# Altium footprint library CH32X035F7.PcbLib: 15 footprints
Each footprint in its own frame and in the unit in brackets; x right, y up, seen from the top. Pads: shape width x height; smd on the part's side, far side on the other; paste and mask are expansions set on the pad; w line width, h text height; cw(c..) or ccw(c..) is an arc to the next point about the centre after c.
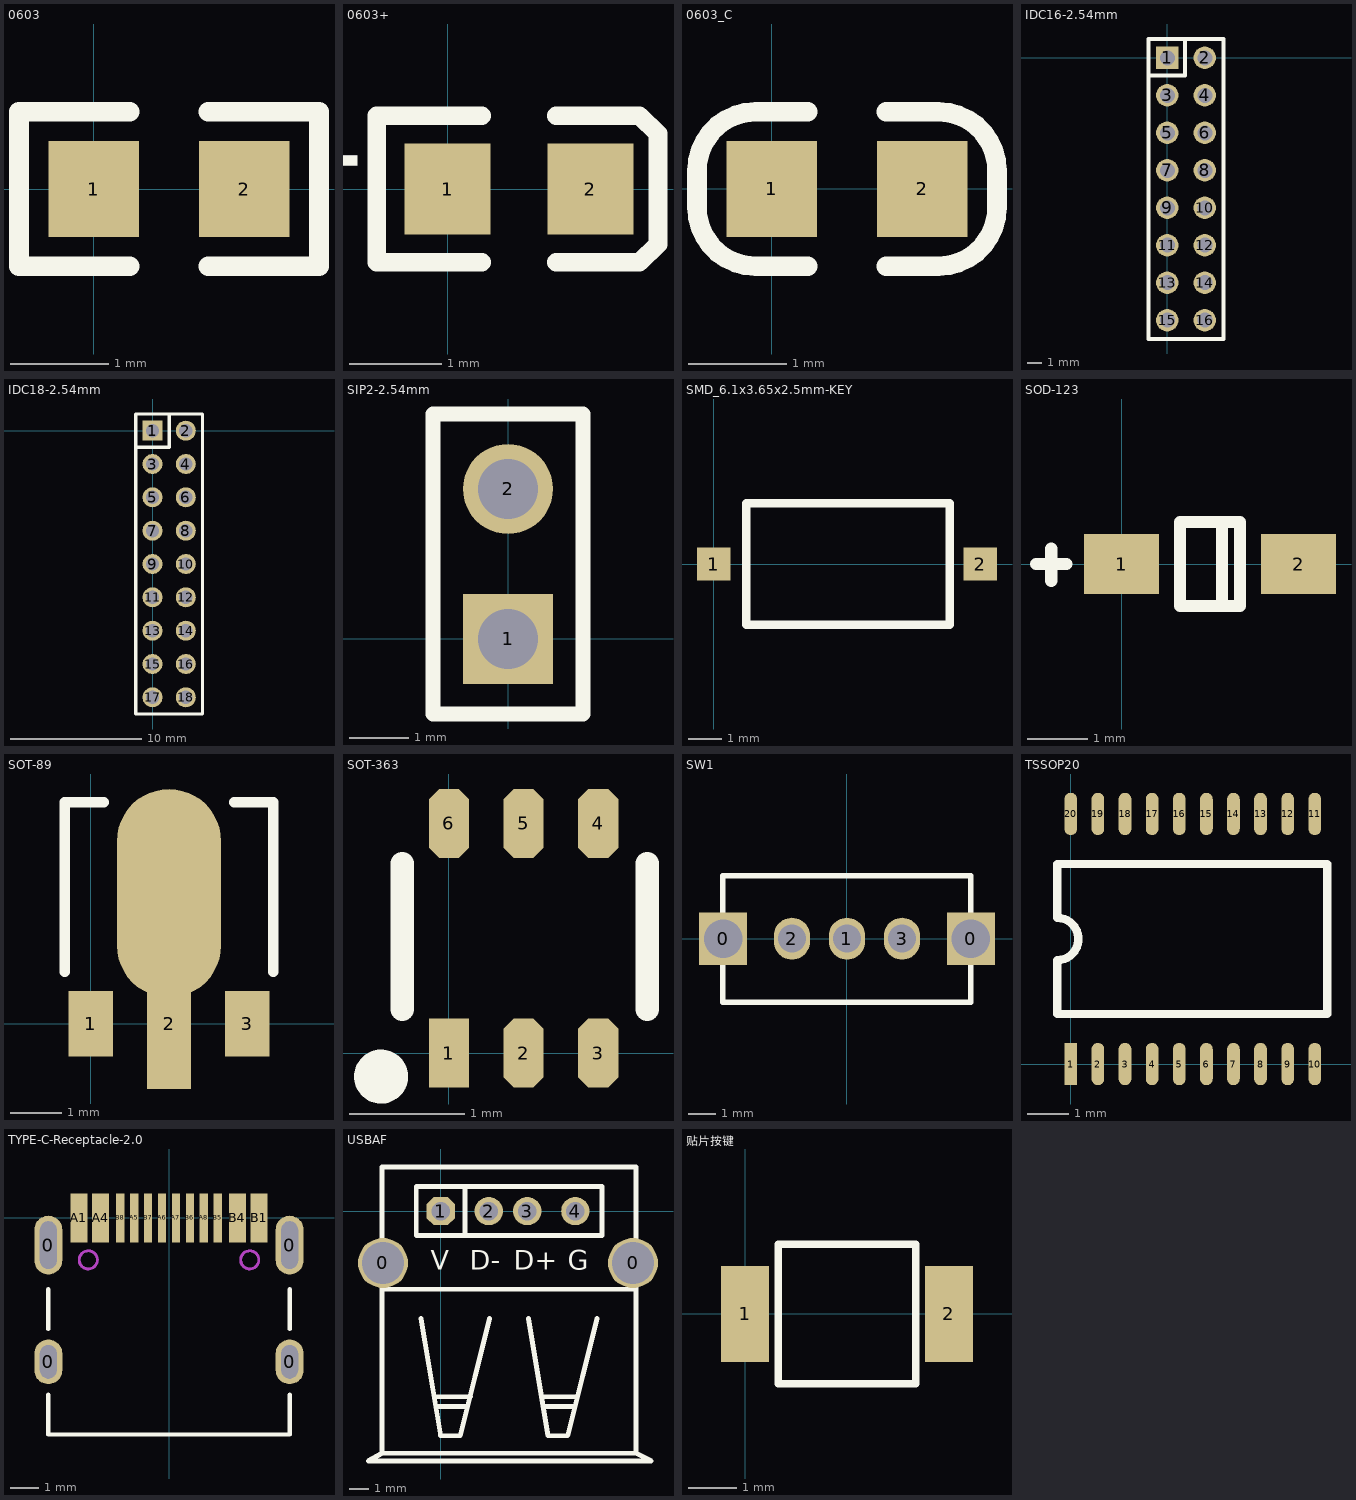
[diagram p0: the footprints below, top view; thin cyan lines are the x and y axes]

## 0603 [mm]
height 1.3
pads (2):
  rect 0.93x0.98 smd: 1(0,0) 2(1.54,0)
Top Overlay:
  lines w0.2: 0.37,-0.79 -0.765,-0.79 -0.765,0.79 0.37,0.79 ; 1.17,-0.79 2.305,-0.79 2.305,0.79 1.17,0.79

## 0603+ [mm]
height 1.3
pads (2):
  rect 0.93x0.98 smd: 1(0,0) 2(1.54,0)
Top Overlay:
  lines w0.2: 0.37,-0.79 -0.765,-0.79 -0.765,0.79 0.37,0.79 ; 1.17,-0.79 2.07,-0.79 2.27,-0.597 2.27,0.597 2.07,0.79 1.17,0.79
  text "+" at -0.967,-0.279 h1.02

## 0603_C [mm]
height 1.3
pads (2):
  rect 0.93x0.98 smd mask+0.051: 1(0,0) 2(1.54,0)
Top Overlay:
  lines w0.2: 0.37,-0.79 -0.165,-0.79 cw(c-0.165,-0.19) -0.765,-0.19 -0.765,0.19 cw(c-0.165,0.19) -0.165,0.79 0.37,0.79 ; 1.17,-0.79 1.705,-0.79 ccw(c1.705,-0.19) 2.305,-0.19 2.305,0.19 ccw(c1.705,0.19) 1.705,0.79 1.17,0.79

## IDC16-2.54mm [mil]
height 51.18
pads (16):
  rect 60x60 hole 40: 1(0,0)
  round 60 hole 40: 2(100,0) 3(0,-100) 4(100,-100) 5(0,-200) 6(100,-200) 7(0,-300) 8(100,-300) 9(0,-400) 10(100,-400) 11(0,-500) 12(100,-500) 13(0,-600) 14(100,-600) 15(0,-700) 16(100,-700)
Top Overlay:
  lines w10: -50,-47 47,-47 47,49 ; -50,49 -50,-750 150,-750 150,49 ; -50,50 150,50

## IDC18-2.54mm [mil]
height 51.18
pads (18):
  rect 60x60 hole 40: 1(0,0)
  round 60 hole 40: 2(100,0) 3(0,-100) 4(100,-100) 5(0,-200) 6(100,-200) 7(0,-300) 8(100,-300) 9(0,-400) 10(100,-400) 11(0,-500) 12(100,-500) 13(0,-600) 14(100,-600) 15(0,-700) 16(100,-700) 17(0,-800) 18(100,-800)
Top Overlay:
  lines w10: -51,-850 149,-850 ; -50,-850 -50,50 150,50 150,-850 ; -50,-50 50,-50 50,50

## SIP2-2.54mm [mil]
height 51.18
pads (2):
  rect 60x60 hole 40: 1(0,0)
  round 60 hole 40: 2(0,100)
Top Overlay:
  lines w10: -50,-50 50,-50 50,150 -50,150 -50,-50

## SMD_6.1x3.65x2.5mm-KEY [mm]
height 1.3
pads (2):
  rect 1x1 smd: 1(0,0) 2(8,0)
Top Overlay:
  lines w0.254: 0.976,-1.825 0.976,1.825 7.076,1.825 7.076,-1.825 0.976,-1.825

## SOD-123 [mm]
height 1.3
pads (2):
  rect 1.25x1 smd: 1(0,0) 2(2.95,0)
Top Overlay:
  lines w0.2: 1.675,-0.7 1.675,0.7 ; 0.975,-0.7 0.975,0.7 1.975,0.7 1.975,-0.7 0.975,-0.7
  lines w0.203: -1.43,0 -0.922,0 ; -1.176,-0.279 -1.176,0.254

## SOT-89 [mil]
height 51.18
pads (4):
  rect 34x50 smd: 1(0,0) 3(120,0)
  rect 34x100 smd: 2(60,0)
  oval 80x160 smd: ""(60,100)
Top Overlay:
  lines w8: -20,40 -20,170 10,170 ; 110,170 140,170 140,40

## SOT-363 [mm]
height 1.3
pads (6):
  rect 0.35x0.6 smd mask+0.051: 1(0,0)
  oct 0.35x0.6 smd mask+0.051: 2(0.65,0) 3(1.3,0) 4(1.3,2) 5(0.65,2) 6(0,2)
Top Overlay:
  circle w0.254: c-0.59,-0.205 r0.108
  lines w0.203: -0.406,0.381 -0.406,1.651 ; 1.727,0.381 1.727,1.651

## SW1 [mm]
height 1.3
pads (5):
  rect 1.75x1.9 hole 1.4: 0(-4.5,0) 0(4.5,0)
  oval 1.321x1.524 hole 1.016: 1(0,0) 2(-2,0) 3(2,0)
Top Overlay:
  lines w0.203: -4.508,-2.311 -4.508,2.289 ; -4.5,-2.311 4.5,-2.311 4.5,2.289 -4.5,2.289

## TSSOP20 [mil]
height 51.18
pads (20):
  rect 12x40 smd: 1(0,0)
  oval 12x40 smd: 2(25.6,0) 3(51.2,0) 4(76.8,0) 5(102.4,0) 6(128,0) 7(153.5,0) 8(179.1,0) 9(204.7,0) 10(230.3,0) 11(230.3,236) 12(204.7,236) 13(179.1,236) 14(153.5,236) 15(128,236) 16(102.4,236) 17(76.8,236) 18(51.2,236) 19(25.6,236) 20(0,236)
Top Overlay:
  lines w7.87: -12.79,47.24 -12.79,98 ccw(c-12.79,118) -12.79,138 -12.79,188.76 241.91,188.76 241.91,47.24 -12.79,47.24

## TYPE-C-Receptacle-2.0 [mm]
height 1.3
pads (16):
  oval 1x1.6 hole 0.6 slot 1.2 at 90 deg: 0(-4.32,-5.15) 0(4.32,-5.15)
  oval 1x2.1 hole 0.6 slot 1.7 at 90 deg: 0(-4.32,-0.97) 0(4.32,-0.97)
  rect 0.6x1.75 smd mask+0.051: A1(-3.225,0) A4(-2.45,0) B1(3.225,0) B4(2.45,0)
  rect 0.3x1.75 smd mask+0.051: A5(-1.25,0) A6(-0.25,0) A7(0.25,0) A8(1.25,0) B5(1.75,0) B6(0.75,0) B7(-0.75,0) B8(-1.75,0)
Top Overlay:
  lines w0.152: -4.32,-6.325 -4.32,-7.75 4.32,-7.75 4.32,-6.325 ; -4.32,-3.975 -4.32,-2.55 ; 4.32,-3.975 4.32,-2.55
Keep-Out Layer:
  circle w0.1: c2.89,-1.5 r0.325
  circle w0.1: c-2.89,-1.5 r0.325
Mechanical 1:
  circle w0.102: c2.89,-1.5 r0.325
  circle w0.102: c-2.89,-1.5 r0.325

## USBAF [mm]
height 1.3
pads (6):
  round 2.6 hole 2.2: 0(-3,-2.7) 0(10,-2.7)
  oct 1.473x1.473 hole 0.965: 1(0,0)
  round 1.473 hole 0.965: 2(2.5,0) 3(4.5,0) 4(7,0)
Top Overlay:
  lines w0.254: -3.048,-4.064 10.16,-4.064 ; -1.016,-5.588 0,-11.684 1.016,-11.684 2.54,-5.588 ; -0.33,-9.652 1.549,-9.652 ; -0.203,-10.16 1.321,-10.16 ; 1.27,-1.27 1.27,1.27 ; 4.572,-5.588 5.588,-11.684 6.604,-11.684 8.128,-5.588 ; 5.232,-9.652 7.112,-9.652 ; 5.359,-10.16 6.883,-10.16 ; -3.048,-12.59 -3.752,-12.99 10.948,-12.99 10.16,-12.59 ; -3.048,-12.59 10.16,-12.59 ; -3.048,-12.59 -3.048,2.286 10.16,2.286 10.16,-12.59 ; -1.27,-1.27 -1.27,1.27 8.382,1.27 8.382,-1.27 -1.27,-1.27
  text "G" at 6.604,-3.048 h1.02
  text "V" at -0.508,-3.048 h1.02
  text "D+" at 3.81,-3.048 h1.02
  text "D-" at 1.524,-3.048 h1.02

## 贴片按键 [mm]
height 1.3
pads (2):
  rect 1x2 smd: 1(0,0) 2(4.242,0)
Top Overlay:
  lines w0.152: 0.693,-1.45 3.549,-1.45 3.549,1.45 0.693,1.45 0.693,-1.45